# EAGLE library part 615008160221 (library WR-MJ)
WR-MJ Gigabit Ethernet Modular Jacks – THT Characteristics Shieldingless and Shielded with EMI-Spring option Vertical and Horizontal orientations Tray Packaging Properties PoE++ Compatible up to 100W (IEEE 802.3bt) UL and cULus-Certified UL94-V0 reflow-compatible insulator material Ethernet Category 5e to 6A Applications Telecommunications Computing Video Internet of Things Smart Buildings <https://www.we-online.com/components/media/o161613v209%20Family_WR-MJTH_615008160021.jpg> Details see: www.we-online.com/en/components/products/WR_MJ_MODULAR_JACKS_OVER <www.we-online.com/catalog/WR_MJ_MODULAR_JACKS_OVER/?utm_source=eagle_model&utm_medium=description_link&utm_campaign=eisos_eagle> Updated by Yingchun Shan 2020-01-03 2020(C) Würth Elektronik
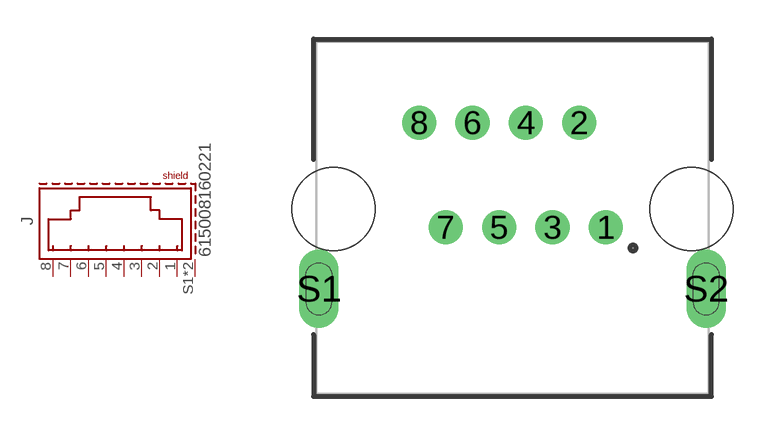
[diagram p28: symbol with the pads of 615008160221; footprint 615008160221]

Designator prefix J

## 615008160221 (APPLICATION-SYSTEM: CAT 6; DATASHEET-URL: https://www.we-online.com/redexpert/spec/615008160221?ae; EMI: Yes; LED: /; MOUNT: THT; PART-NUMBER: 615008160221; SIZE: Horizontal; VALUE: 615008160221; XPXC: 8P8C)  [615008160221]
1  1  pas
2  2  pas
3  3  pas
4  4  pas
5  5  pas
6  6  pas
7  7  pas
8  8  pas
S1  SHIELD  pas
S2  SHIELD  pas

## Footprint 615008160221 (pad centres in mm)
WR-MJ Modular Jack THT Horizontal Shielded EMI 8P8C
drill 0.8: 1 3.57,-0.365; 2 2.55,3.635; 3 1.53,-0.365; 4 0.51,3.635; 5 -0.51,-0.365; 6 -1.53,3.635; 7 -2.55,-0.365; 8 -3.57,3.635
drill 1 pad 1.27 long: S1 -7.4,-2.715; S2 7.4,-2.715
hole 3.18 at -6.85,0.335
hole 3.18 at 6.85,0.335